# Altium footprint library Capasitors.PcbLib: 6 footprints
Each footprint in its own frame and in the unit in brackets; x right, y up, seen from the top. Pads: shape width x height; smd on the part's side, far side on the other; paste and mask are expansions set on the pad; w line width, h text height; cw(c..) or ccw(c..) is an arc to the next point about the centre after c.
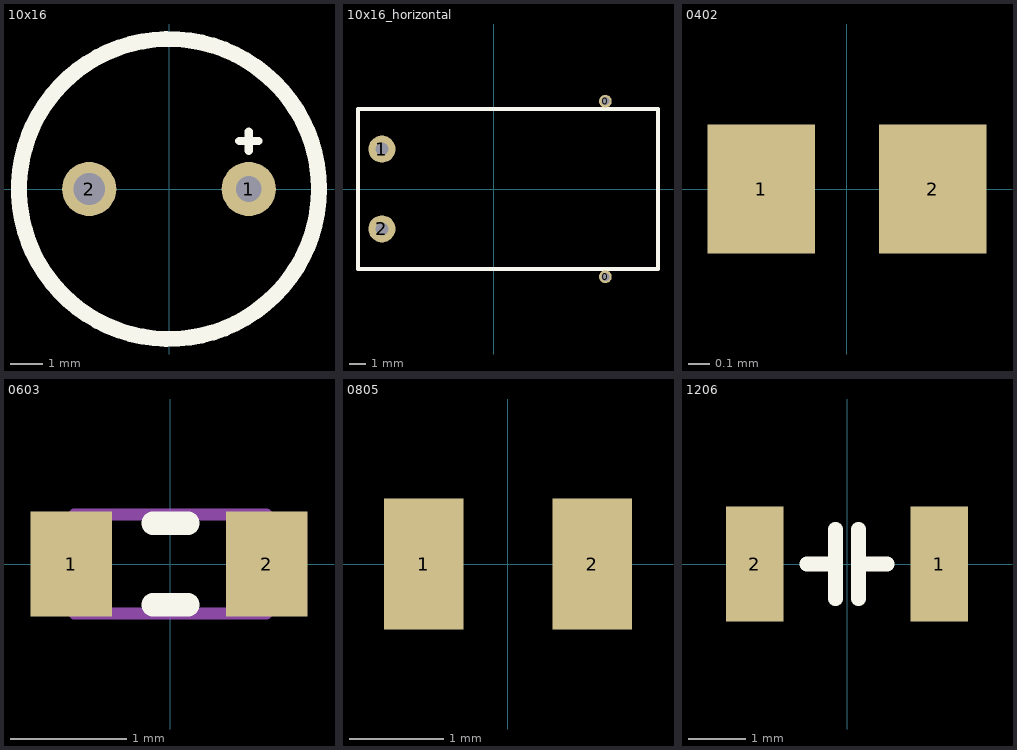
[diagram p0: the footprints below, top view; thin cyan lines are the x and y axes]

## 10x16 [mm]
pads (2):
  round 1.7 hole 0.8: 1(2.5,0)
  round 1.7 hole 1: 2(-2.5,0)
Top Overlay:
  circle w0.5: c0,0 r4.7
  lines w0.254: 2.2,1.5 2.8,1.5 ; 2.5,1.2 2.5,1.8
3D body "User Library-Cap electrolitic radial 10x16.STEP": height 16.8, standoff -0.7, extent -4.998,-5 4.998,4.999

## 10x16_horizontal [mm]
pads (4):
  round 0.8 hole 0.5: 0(7,-5.5) 0(7,5.5)
  round 1.7 hole 0.8: 1(-7,2.5) 2(-7,-2.5)
Top Overlay:
  lines w0.254: -8.5,-5 -8.5,5 10.3,5 10.3,-5 -7.2,-5 -8.5,-5
3D body "User Library-Cap electrolitic radial 10x16.STEP": height 10.1, standoff 0.1, extent -7.2,-4.998 10.3,4.998

## 0402 [mm]
pads (2):
  rect 0.5x0.6 smd: 1(-0.4,0) 2(0.4,0)
3D body "User Library-0402C.STEP": height 0.36, standoff 0, extent -0.475,-0.265 0.525,0.265

## 0603 [mm] "Chip Resistor, 2-Leads, Body 1.6x0.8mm, IPC Medium Density"
height 0.5
pads (2):
  rect 0.7x0.9 smd: 1(-0.85,0) 2(0.825,0)
Top Overlay:
  lines w0.2: -0.15,-0.35 0.15,-0.35 ; -0.15,0.35 0.15,0.35
Mechanical 13:
  lines w0.1: -0.825,-0.425 -0.825,0.425 0.825,0.425 0.825,-0.425 -0.825,-0.425
3D body "User Library-Chip Cap_MLCC_0603 (1608).STEP": height 0.5, standoff 0, extent -0.825,-0.4 0.775,0.4

## 0805 [mm]
pads (2):
  rect 0.85x1.4 smd: 1(-0.9,0) 2(0.9,0)
3D body "User Library-CAPC2013X10.STEP": height 1, standoff 0, extent -1,-0.625 1,0.625

## 1206 [mm]
pads (2):
  rect 1x2 smd: 1(1.6,0) 2(-1.6,0)
Top Overlay:
  lines w0.254: -0.7,0 -0.5,0 -0.2,0 ; -0.2,-0.6 -0.2,-0.3 -0.2,0.3 -0.2,0.6 ; 0.2,-0.6 0.2,-0.3 0.2,0.3 ; 0.2,0.6 0.2,0.3 ; 0.7,0 0.5,0 0.2,0 0.2,0.3
3D body "SW3dPS-1206 SMD Capacitor.STEP": height -0.4, standoff -1.4, extent -1.6,-0.8 1.6,0.8